# EAGLE library part MULTIPLEXER4 (library digital)
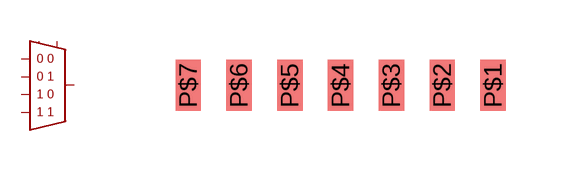
[diagram p8: symbol with the pads of 7PIN; footprint 7PIN]

Designator prefix -

## MULTIPLEXER4  [7PIN]
P$1  D0
P$2  D1
P$3  D2
P$4  D3
P$5  S0
P$6  S1
P$7  Y

## Footprint 7PIN (pad centres in mm)
smd 0.635 x 1.27: P$1 3.81,0; P$2 2.54,0; P$3 1.27,0; P$4 0,0; P$5 -1.27,0; P$6 -2.54,0; P$7 -3.81,0